# Altium footprint library gecko3-library.PcbLib: 40 footprints (part 2 of 3)
Each footprint in its own frame and in the unit in brackets; x right, y up, seen from the top. Pads: shape width x height; smd on the part's side, far side on the other; paste and mask are expansions set on the pad; w line width, h text height; cw(c..) or ccw(c..) is an arc to the next point about the centre after c.
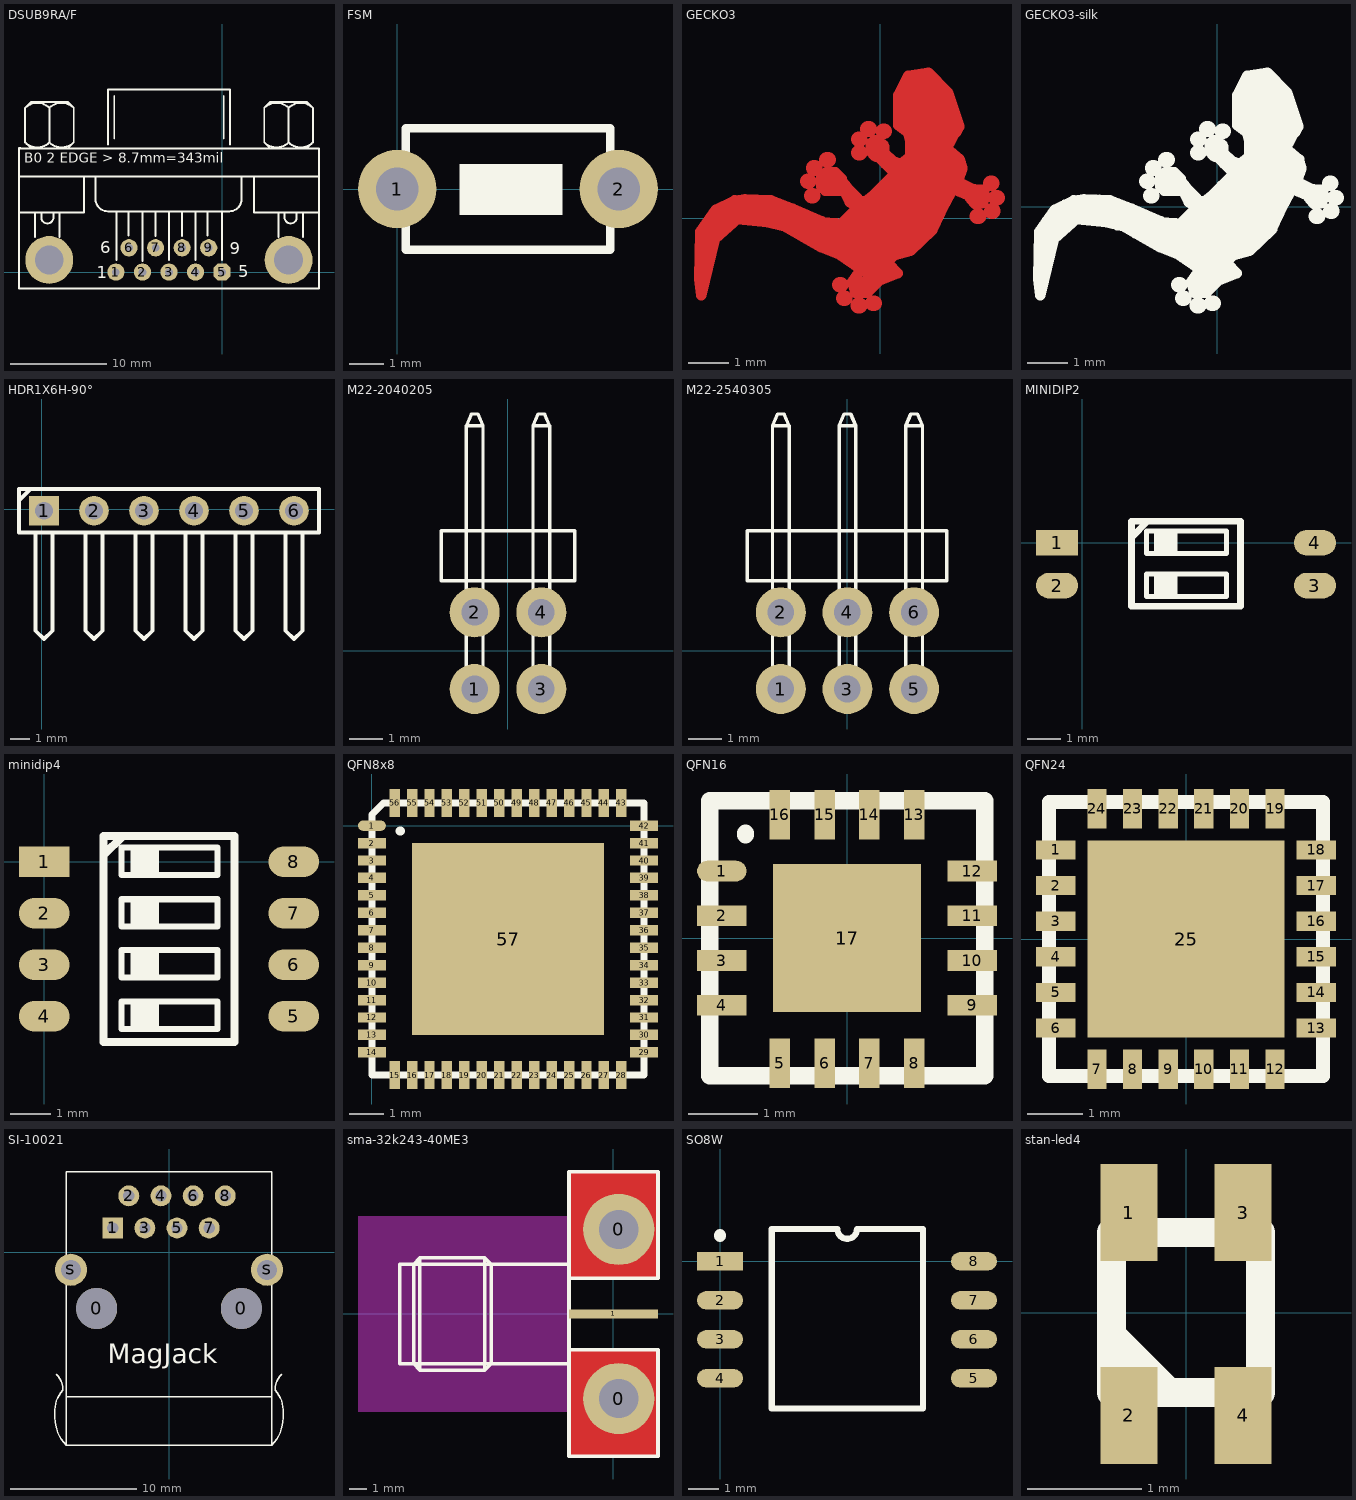
[diagram p1: the footprints below, top view; thin cyan lines are the x and y axes]

## DSUB9RA/F [mm] "DB9 female connector"
height 14
pads (11):
  round 1.8 hole 0.8: 1(-11.091,0) 2(-8.318,0) 3(-5.546,0) 4(-2.773,0) 6(-9.715,2.54) 7(-6.943,2.54) 8(-4.17,2.54) 9(-1.397,2.54)
  oct 1.8x1.8 hole 0.8: 5(0,0)
  round 5 hole 3: ""(-18.055,1.27) ""(6.943,1.27)
Top Overlay:
  lines w0.203: -21.209,6.223 -14.436,6.223 -14.427,9.957 ; -21.209,9.982 10.118,9.982 ; -20.576,13.544 ccw(c-19.304,14.817) -18.032,13.544 ; -20.576,17.147 cw(c-19.304,15.875) -18.032,17.147 ; -19.939,12.912 -20.574,13.547 -20.574,17.145 -19.939,17.78 -16.129,17.78 -15.494,17.145 -15.494,13.547 -16.129,12.912 ; -19.516,3.683 -19.516,6.223 ; -18.881,5.588 -18.881,6.223 ; -18.881,5.715 ccw(c-18.246,5.715) -17.611,5.715 ; -18.036,13.544 ccw(c-16.764,14.817) -15.492,13.544 ; -18.036,17.147 cw(c-16.764,15.875) -15.492,17.147 ; -18.034,13.547 -18.034,17.145 ; -17.611,5.588 -17.611,6.223 ; -16.976,3.683 -16.976,6.223 ; -13.208,7.366 -13.208,9.906 ; -13.208,7.62 ccw(c-11.938,7.62) -11.938,6.35 0.762,6.35 ccw(c0.762,7.62) 2.032,7.62 ; -11.896,13.335 -11.896,19.05 0.804,19.05 0.804,13.335 ; -11.261,13.97 -11.261,18.415 ; -11.049,1.27 -11.049,6.35 ; -9.779,3.81 -9.779,6.35 ; -8.331,6.325 -8.323,1.168 ; -6.96,6.325 -6.951,3.785 ; -5.546,6.35 -5.537,1.245 ; -4.174,6.35 -4.166,3.785 ; -2.794,1.27 -2.794,6.35 ; -1.524,3.81 -1.524,4.022 -1.524,6.35 ; 0,6.325 0.008,1.245 ; 0.169,13.97 0.169,18.415 ; 2.032,7.366 2.032,9.906 ; 3.327,9.931 3.344,6.223 10.118,6.223 ; 4.4,13.544 ccw(c5.673,14.817) 6.945,13.544 ; 4.4,17.147 cw(c5.673,15.875) 6.945,17.147 ; 5.038,12.912 4.403,13.547 4.403,17.145 5.038,17.78 8.848,17.78 9.483,17.145 9.483,13.547 8.848,12.912 ; 5.884,3.683 5.884,6.223 ; 6.519,5.588 6.519,6.223 ; 6.519,5.715 ccw(c7.154,5.715) 7.789,5.715 ; 6.94,13.544 ccw(c8.213,14.817) 9.485,13.544 ; 6.94,17.147 cw(c8.213,15.875) 9.485,17.147 ; 6.943,13.547 6.943,17.145 ; 7.789,5.588 7.789,6.223 ; 8.424,3.683 8.424,6.223 ; -21.209,-1.693 -21.209,12.912 10.118,12.912 10.118,-1.693 -21.209,-1.693
  lines w0.254: -21.209,12.912 -21.099,12.912
  text "B0 2 EDGE > 8.7mm=343mil" at -20.676,11.43 h1.02
  text "9" at 0.787,1.88 h1.27
  text "5" at 1.702,-0.559 h1.27
  text "1" at -13.106,-0.66 h1.27
  text "6" at -12.7,1.981 h1.27

## FSM [mil] "Printtaster 3,5x6mm, FSM Alcoswitch"
height 196.85
pads (2):
  round 90 hole 49: 1(0,0) 2(255,0)
Top Overlay:
  rectangle: 72,-30 190,29
  lines w10: 10,-70 245,-70 245,70 10,70 10,-70

## GECKO3 [mm] "Gecko Logo"
Top Layer:
  lines w0.254: -4.293,-0.418 -4.293,-0.457 -4.275,-0.9 ; -3.773,0.102 -2.464,0.102 ; -2.134,-0.025 -2.261,0.102 -2.464,0.102 ; -2.083,-0.025 -1.829,-0.025 -1.422,-0.432 ; -1.778,-0.102 -1.778,-0.025 ; -1.524,-0.203 -1.905,-0.203 -2.337,-0.203 ; -1.443,0.895 -0.935,0.895 -0.858,0.818 -0.741,0.667 -0.752,0.647 -1.036,0.666 -1.341,0.666 -1.443,0.768 -1.443,0.996 -1.316,1.123 -1.098,1.123 -0.937,0.962 ; -1.422,-0.686 -1.422,-0.076 ; -1.422,-0.381 -1.473,-0.432 -1.93,-0.432 ; -1.42,-0.101 -0.666,-0.151 ; -1.295,-0.584 -1.295,-0.15 ; -1.17,-0.127 -1.17,-0.635 -1.041,-0.838 -0.666,-0.151 ; -0.995,-0.685 -0.995,-0.177 ; -0.85,0.625 -0.743,0.392 -0.633,0.309 ; -0.838,-0.66 -0.888,-0.076 -0.393,0.419 ; -0.735,0.665 -0.448,0.377 ; -0.6,0.45 -0.588,0.447 ; -0.584,-0.66 -0.356,-0.889 0,-0.889 0.025,-0.864 0.025,-0.838 0.152,-0.711 0.61,-0.711 1.245,-0.001 1.245,0.255 1.778,0.713 ; -0.584,0 -0.584,-0.203 -0.152,0.229 0.178,0.229 0.229,0.178 0.276,0.225 0.479,0.225 0.94,0.686 ; -0.562,0.495 -0.526,0.284 ; -0.508,0.102 -0.279,0.102 -0.305,0.127 ; -0.441,0.291 0.333,1.065 ; -0.381,-1.6 -0.381,-1.549 -0.152,-1.321 ; -0.381,-1.118 0.127,-1.118 -0.076,-1.321 -0.152,-1.321 ; -0.347,0.426 -0.305,0.254 ; -0.3,0.457 0.406,0.457 ; -0.233,0.513 -0.152,0.457 0.025,0.457 0.508,0.94 0.508,1.143 ; -0.215,0.432 -0.666,-0.151 ; -0.175,1.55 -0.149,1.526 ; -0.102,1.499 -0.229,1.626 -0.229,1.829 -0.152,1.905 -0.102,1.905 -0.07,1.841 -0.041,1.857 -0.02,1.815 -0.075,1.65 ; -0.03,1.835 0.06,1.805 ; -0.016,1.461 0.109,1.346 0.097,1.347 0.179,1.271 ; 0.003,1.768 0.069,1.714 0.1,1.651 ; 0.067,1.811 0.104,1.724 0.075,1.65 ; 0.1,1.6 0.303,1.397 0.506,1.322 0.785,1.551 0.735,1.854 0.685,2.09 0.432,2.268 0.432,2.692 0.432,2.997 0.686,3.48 1.168,3.556 1.651,3.073 1.93,2.235 1.861,2.095 1.815,2.08 1.706,1.861 1.696,1.841 1.626,1.701 1.93,1.448 2.007,1.219 1.899,0.896 1.904,0.89 2.261,0.711 2.361,0.611 ; 0.178,0.457 0.178,0.432 0.813,0.432 ; 0.2,1.25 0.325,1.125 0.323,1.125 0.406,1.041 0.508,1.143 ; 0.25,1.25 0.222,1.311 0.254,1.397 ; 0.254,1.27 0.33,1.346 0.406,1.27 0.461,1.325 1.075,1.325 1.075,2.506 1.067,2.515 ; 0.33,-0.432 -0.279,-0.432 -0.076,-0.229 0.825,-0.229 ; 0.508,1.168 0.508,1.143 ; 0.635,-0.229 0.432,-0.432 0.432,-0.457 0.178,-0.711 0.178,-1.321 -0.025,-1.524 ; 0.686,0.432 0.94,0.686 ; 0.737,0.787 0.737,2.032 0.635,2.134 0.635,3.073 0.889,3.327 1.067,3.327 ; 0.889,3.023 0.991,3.023 ; 0.991,0.635 1.321,0.635 ; 0.996,3.129 0.838,2.972 0.838,2.261 0.94,2.159 0.94,0.686 ; 1.067,3.099 1.067,3.327 ; 1.125,0.675 1.125,1.856 ; 1.194,0.508 1.067,0.508 0.686,0.127 0.686,0 ; 1.219,2.515 1.067,2.515 ; 1.524,2.489 1.524,0.737 1.016,0.229 1.016,0 0.356,-0.66 -0.254,-0.66 -0.381,-0.533 -0.381,-0.33 -0.051,0 0.686,0 ; 1.702,2.235 1.626,2.311 1.626,2.769 1.067,3.327 ; 1.702,2.475 1.702,2.032 1.524,1.854 1.524,1.626 1.524,1.499 1.778,1.245 ; 2.261,0.508 1.778,0.711 1.575,0.356 1.273,-0.295 0.737,-0.801 0.33,-0.914 0.203,-1.041 0.203,-1.118 0.432,-1.346 -0.025,-1.524 ; 2.275,0.522 2.294,0.542 2.304,0.542 2.314,0.532 2.323,0.542 2.333,0.542 2.333,0.581 2.353,0.6 ; 2.337,0.584 2.337,0.635 ; -2.464,0.102 -2.667,0.305 -3.531,0.305 -3.327,0.102 -2.667,0.102 -2.54,-0.025 -1.778,-0.025 ; -2.337,-0.203 -2.743,-0.102 -3.48,-0.025 -4.039,-0.508 -4.369,-1.88 -4.42,-1.473 -4.394,-0.33 -4.013,0.203 -3.556,0.432 -3.302,0.457 -2.667,0.432 -2.134,0.229 -1.422,-0.076 ; -2.337,-0.203 -1.93,-0.432 ; -1.93,-0.432 -1.448,-0.711 -0.991,-0.889 -0.483,-1.245 -0.152,-1.092 -0.533,-1.346 -0.686,-1.549 -0.61,-1.829 ; -1.778,-0.025 -1.422,-0.076 ; -0.61,-1.829 -0.61,-1.778 -0.152,-1.321 ; -0.61,-1.829 -0.33,-1.829 -0.025,-1.524 ; 0.686,0 1.321,0.635 ; 1.067,2.515 0.838,2.743 1.247,2.743 1.321,2.669 1.321,0.635
  lines w0.3: -0.838,-0.66 -0.381,-1.118 ; -0.584,-0.66 -0.584,-0.1 ; 0.406,0.457 0.737,0.787 ; 0.991,3.023 1.524,2.489 ; 1.778,0.713 1.778,1.245
  lines w0.34: 2.15,0.675 2.5,0.65 ; 2.217,0.526 2.325,0.4 ; 2.336,0.375 2.4,0.375 ; 2.475,0.4 2.5,0.5 2.5,0.625 ; 2.475,0.45 2.4,0.375 ; 2.4,0.375 2.4,0.375
  lines w0.381: -1.775,0.9 -1.75,0.9 ; -1.675,0.55 -1.65,0.55 ; -1.625,1.225 -1.6,1.225 ; -1.3,1.425 -1.275,1.425 ; -0.991,-1.626 -0.966,-1.626 ; -0.889,-1.956 -0.864,-1.956 ; -0.533,-2.134 -0.508,-2.134 ; -0.525,1.6 -0.5,1.6 ; -0.525,1.925 -0.5,1.925 ; -0.3,2.175 -0.275,2.175 ; -0.177,-2.082 -0.152,-2.082 ; 0.075,2.125 0.1,2.125 ; 2.375,0.05 2.4,0.05 ; 2.7,0.85 2.725,0.85 ; 2.725,0.175 2.75,0.175 ; 2.825,0.5 2.85,0.5
  lines w0.4: -4.293,-0.418 -3.773,0.102
Top Solder:
  lines w0.1: -4.475,-0.825 -4.225,-0.975 ; -4.425,-1.8 -4.325,-1.775 ; -4.275,-0.025 -4.05,-0.225 -3.9,-0.225 ; -3.797,0.4 -3.75,0.05 -3.6,-0.1 ; -2.925,0.525 -2.85,0.25 -2.675,0.125 ; -2.125,-0.1 -2.25,0.05 -2.025,0.225 ; -2.075,-0.45 -1.65,-0.3 -1.725,0 ; -0.95,-0.375 -0.848,-0.749 -0.945,-1.02 ; -0.6,0.575 -0.6,0.625 ; -0.3,-1.725 -0.35,-1.45 -0.475,-1.45 -0.45,-1.225 -0.3,-0.95 ; -0.025,1.925 0.009,1.734 ; 0.05,1.3 0.6,1.175 0.475,0.725 ; 0.65,1.825 0.8,1.4 1.375,1.35 ; 0.775,3.425 0.775,3.45 ; 1.1,3.475 1.1,3.5 ; 1.6,0.6 2.2,0.6 2.225,0.35
  lines w0.2: -4.45,-1.35 -4.275,-1.225 ; -2.498,-0.201 -2.4,-0.025 -2.475,0.15 ; -1.45,-0.525 -1.25,-0.225 ; -1.25,0.65 -1.15,0.775 ; 0.825,0.9 0.725,0.35 1.326,-0.275 ; 1.475,1.1 1.975,1.45
  lines w0.25: -0.15,1.525 -0.15,1.55
  lines w0.3: -4.375,-0.35 -4.35,-0.35 ; -3.45,0.275 -3.4,0.175 ; -0.375,-0.625 -0.35,0.025 -0.225,0.2 ; -0.075,-1.125 0.125,-1.425 ; 0.075,0.775 0.3,0.4 0.2,-0.25 0.525,-0.575 ; 1.4,0.375 1.425,0.375
  lines w0.34: 0.775,2.55 0.8,2.55 ; 1.45,2.725 1.475,2.725

## GECKO3-silk [mm] "GECKO3 logo to be placed on silkscreen"
Top Overlay:
  drawing of 296 lines, arcs and shapes, not listed

## HDR1X6H-90° [mm]
pads (6):
  rect 1.5x1.5 hole 0.9: 1(0.105,-0.08)
  round 1.5 hole 0.9: 2(2.645,-0.08) 3(5.185,-0.08) 4(7.725,-0.08) 5(10.265,-0.08) 6(12.805,-0.08)
Top Overlay:
  lines w0.2: -1.159,0.434 -0.6,1 ; -0.318,-1.2 -0.318,-6.182 0.105,-6.605 0.528,-6.182 0.528,-1.2 ; 2.222,-1.2 2.222,-6.182 2.645,-6.605 3.068,-6.182 3.068,-1.2 ; 4.762,-1.2 4.762,-6.182 5.185,-6.605 5.608,-6.182 5.608,-1.2 ; 7.302,-1.2 7.302,-6.182 7.725,-6.605 8.148,-6.182 8.148,-1.2 ; 9.842,-1.2 9.842,-6.182 10.265,-6.605 10.688,-6.182 10.688,-1.2 ; 12.382,-1.2 12.382,-6.182 12.805,-6.605 13.228,-6.182 13.228,-1.2 ; -1.165,-1.2 14.075,-1.2 14.075,1.025 -1.165,1.025 -1.165,-1.2

## M22-2040205 [mm] "Harwin 2mm horizontal connector 2x2 pin"
height 4
pads (4):
  round 1.5 hole 0.8: 1(-1,-1.15) 2(-1,1.15) 3(1,-1.15) 4(1,1.15)
Top Overlay:
  lines w0.1: -1.25,-0.875 -0.75,-0.875 ; -1.25,0.875 -0.775,0.875 ; -1.25,1.375 -0.75,1.375 ; 0.75,-0.875 1.25,-0.875 ; 0.75,0.875 1.225,0.875 ; 0.75,1.375 1.25,1.375 ; -1.25,6.75 -1.1,7.1 -0.9,7.1 -0.75,6.75 ; -1.25,6.75 -1.25,-1.375 -0.75,-1.375 -0.75,6.75 ; -1.25,6.75 -0.75,6.75 ; 0.75,6.75 0.9,7.1 1.1,7.1 1.25,6.75 ; 0.75,6.75 0.75,-1.375 1.25,-1.375 1.25,6.75 ; 0.75,6.75 1.25,6.75 ; -2,2.1 -2,3.6 2,3.6 2,2.1 -2,2.1

## M22-2540305 [mm] "Harwin 2mm horizontal connector 2x3 pin"
height 4
pads (6):
  round 1.5 hole 0.8: 1(-2,-1.15) 2(-2,1.15) 3(0,-1.15) 4(0,1.15) 5(2,-1.15) 6(2,1.15)
Top Overlay:
  lines w0.1: -2.25,-0.875 -1.75,-0.875 ; -2.25,0.875 -1.775,0.875 ; -2.25,1.375 -1.75,1.375 ; -0.25,-0.875 0.25,-0.875 ; -0.25,0.875 0.225,0.875 ; -0.25,1.375 0.25,1.375 ; 1.75,-0.875 2.25,-0.875 ; 1.75,0.875 2.225,0.875 ; 1.75,1.375 2.25,1.375 ; -2.25,6.75 -2.1,7.1 -1.9,7.1 -1.75,6.75 ; -2.25,6.75 -2.25,-1.375 -1.75,-1.375 -1.75,6.75 ; -2.25,6.75 -1.75,6.75 ; -0.25,6.75 -0.1,7.1 0.1,7.1 0.25,6.75 ; -0.25,6.75 -0.25,-1.375 0.25,-1.375 0.25,6.75 ; -0.25,6.75 0.25,6.75 ; 1.75,6.75 1.9,7.1 2.1,7.1 2.25,6.75 ; 1.75,6.75 1.75,-1.375 2.25,-1.375 2.25,6.75 ; 1.75,6.75 2.25,6.75 ; -3,2.1 -3,3.6 2.975,3.6 2.975,2.1 -3,2.1

## MINIDIP2 [mm] "2 Way Dip Switch, 1,27 mm Spacing"
height 1.6
pads (4):
  rect 1.25x0.76 smd: 1(-0.75,0)
  oval 1.25x0.76 smd: 2(-0.75,-1.27) 3(6.9,-1.27) 4(6.9,0)
Top Overlay:
  rectangle: 2.125,-1.6 2.825,-0.925
  rectangle: 2.125,-0.325 2.825,0.35
  lines w0.15: 1.9,-1.6 4.275,-1.6 4.275,-0.925 1.9,-0.925 1.9,-1.6 ; 1.9,-0.325 4.275,-0.325 4.275,0.35 1.9,0.35 1.9,-0.325
  lines w0.2: 1.475,0.175 1.925,0.625 ; 4.674,0.635 1.46,0.635 1.46,-1.88 4.69,-1.88 4.69,0.635

## minidip4 [mm]
height 1.6
pads (8):
  rect 1.25x0.76 smd: 1(0,0)
  oval 1.25x0.76 smd: 2(0,-1.27) 3(0,-2.54) 4(0,-3.81) 5(6.15,-3.81) 6(6.15,-2.54) 7(6.15,-1.27) 8(6.15,0)
Top Overlay:
  rectangle: 2.125,-4.125 2.825,-3.45
  rectangle: 2.125,-2.85 2.825,-2.175
  rectangle: 2.125,-1.6 2.825,-0.925
  rectangle: 2.125,-0.325 2.825,0.35
  lines w0.15: 1.9,-4.125 4.275,-4.125 4.275,-3.45 1.9,-3.45 1.9,-4.125 ; 1.9,-2.85 4.275,-2.85 4.275,-2.175 1.9,-2.175 1.9,-2.85 ; 1.9,-1.6 4.275,-1.6 4.275,-0.925 1.9,-0.925 1.9,-1.6 ; 1.9,-0.325 4.275,-0.325 4.275,0.35 1.9,0.35 1.9,-0.325
  lines w0.2: 1.46,0.635 1.46,-4.445 4.69,-4.445 4.69,0.635 ; 1.473,0.635 4.674,0.635 ; 1.475,0.175 1.925,0.625

## QFN8x8 [mm]
pads (57):
  oval 0.8x0.3 smd paste-0.05 mask+0.05: 1(0,0)
  rect 0.8x0.3 smd paste-0.05 mask+0.05: 2(0,-0.5) 3(0,-1) 4(0,-1.5) 5(0,-2) 6(0,-2.5) 7(0,-3) 8(0,-3.5) 9(0,-4) 10(0,-4.5) 11(0,-5) 12(0,-5.5) 13(0,-6) 14(0,-6.5) 29(7.8,-6.5) 30(7.8,-6) 31(7.8,-5.5) 32(7.8,-5) 33(7.8,-4.5) 34(7.8,-4) 35(7.8,-3.5) 36(7.8,-3) 37(7.8,-2.5) 38(7.8,-2) 39(7.8,-1.5) 40(7.8,-1) 41(7.8,-0.5) 42(7.8,0)
  rect 0.3x0.8 smd paste-0.05 mask+0.05: 15(0.65,-7.15) 16(1.15,-7.15) 17(1.65,-7.15) 18(2.15,-7.15) 19(2.65,-7.15) 20(3.15,-7.15) 21(3.65,-7.15) 22(4.15,-7.15) 23(4.65,-7.15) 24(5.15,-7.15) 25(5.65,-7.15) 26(6.15,-7.15) 27(6.65,-7.15) 28(7.15,-7.15) 43(7.15,0.65) 44(6.65,0.65) 45(6.15,0.65) 46(5.65,0.65) 47(5.15,0.65) 48(4.65,0.65) 49(4.15,0.65) 50(3.65,0.65) 51(3.15,0.65) 52(2.65,0.65) 53(2.15,0.65) 54(1.65,0.65) 55(1.15,0.65) 56(0.65,0.65)
  rect 5.5x5.5 smd paste-0.6 mask+0.05: 57(3.9,-3.25)
Top Overlay:
  lines w0.2: 0,-7.15 7.8,-7.15 7.8,0.65 0.325,0.65 0,0.325 0,-7.15
  lines w0.254: 0.8,-0.15 0.825,-0.15

## QFN16 [mm]
pads (17):
  oval 0.72x0.3 smd: 1(-1.82,0.975)
  rect 0.72x0.3 smd: 2(-1.82,0.325) 3(-1.82,-0.325) 4(-1.82,-0.975) 9(1.82,-0.975) 10(1.82,-0.325) 11(1.82,0.325) 12(1.82,0.975)
  rect 0.3x0.72 smd: 5(-0.975,-1.82) 6(-0.325,-1.82) 7(0.325,-1.82) 8(0.975,-1.82) 13(0.975,1.795) 14(0.325,1.795) 15(-0.325,1.795) 16(-0.975,1.795)
  rect 2.15x2.15 smd paste-0.3: 17(0,0)
Top Overlay:
  lines w0.254: -1.475,1.5 -1.475,1.525 ; -1.995,-2 2.005,-2 2.005,2 -1.995,2 -1.995,-2

## QFN24 [mm]
pads (25):
  rect 0.72x0.35 smd: 1(-2.375,1.625) 2(-2.375,0.975) 3(-2.375,0.325) 4(-2.375,-0.325) 5(-2.375,-0.975) 6(-2.375,-1.625) 13(2.375,-1.625) 14(2.375,-0.975) 15(2.375,-0.325) 16(2.375,0.325) 17(2.375,0.975) 18(2.375,1.625)
  rect 0.35x0.72 smd: 7(-1.625,-2.375) 8(-0.975,-2.375) 9(-0.325,-2.375) 10(0.325,-2.375) 11(0.975,-2.375) 12(1.625,-2.375) 19(1.625,2.375) 20(0.975,2.375) 21(0.325,2.375) 22(-0.325,2.375) 23(-0.975,2.375) 24(-1.625,2.375)
  rect 3.6x3.6 smd: 25(0,0)
Top Overlay:
  lines w0.254: -2.5,-2.5 -2.5,2.5 2.5,2.5 2.5,-2.5 -2.5,-2.5

## SI-10021 [mil] "MagJack from Bel Stewart, single port RJ45 with magnetics, without LED's"
height 598.82
pads (12):
  round 128 hole 128: 0(-225,-175) 0(225,-175)
  rect 65x65 hole 35: 1(-175,75)
  round 65 hole 35: 2(-125,175) 3(-75,75) 4(-25,175) 5(25,75) 6(75,175) 7(125,75) 8(175,175)
  round 100 hole 62: s(-305,-55) s(305,-55)
Top Overlay:
  lines w3.94: -350,-380 cw(c-398.28,-428.28) -330,-428.28 -330,-430 ccw(c-269.64,-490.36) -355,-490.36 -355,-515.5 ccw(c-235.5,-515.5) -320,-600 ; -320,-450 320,-450 ; 350,-380 ccw(c398.28,-428.28) 330,-428.28 330,-430 cw(c269.64,-490.36) 355,-490.36 355,-515.5 cw(c235.5,-515.5) 320,-600 ; -320,-600 -320,250 320,250 320,-170 320,-600 ; -320,-600 320,-600
  text "MagJack" at -190,-345 h60

## sma-32k243-40ME3 [mm] "Rosenberger SMD SMA HF Connector"
height 4
pads (3):
  round 4 hole 2.2: 0(0.3,-4.75) 0(0.3,4.75)
  rect 5x0.5 smd: 1(0,0)
Top Layer:
  rectangle: -2.5,-8 2.5,-2
  rectangle: -2.5,2 2.5,8
Top Overlay:
  lines w0.2: -2.525,2.8 -12,2.8 -12,-2.8 -2.5,-2.8 ; -2.5,-2.025 -2.5,2 ; -10.875,-3.15 -11.225,-2.8 -11.225,2.8 -10.875,3.15 ; -10.875,-3.15 -7.225,-3.15 ; -10.875,-3.15 -10.875,3.15 ; -10.875,3.15 -7.225,3.15 ; -7.225,-3.15 -6.875,-2.8 -6.875,2.8 -7.225,3.15 ; -7.225,-3.15 -7.225,3.15 ; -2.5,2 -2.5,8 2.5,8 2.5,2 -2.5,2 ; -2.5,-8 -2.5,-2 2.5,-2 2.5,-8 -2.5,-8
Bottom Overlay:
  lines w0.2: -7.25,3.15 -7.225,3.15 ; -2.5,-2.8 -12,-2.8 -12,2.8 -2.5,2.8 ; -1.9,8 -1.9,0 -1.9,-8 2.5,-8 2.5,8 ; -10.875,-3.15 -10.875,3.15 ; -10.875,-3.15 -7.225,-3.15 ; -10.875,-3.15 -10.875,-3.15 ; -10.875,-3.15 -11.225,-2.8 -11.225,2.8 -10.875,3.15 ; -10.875,3.15 -7.225,3.15 ; -10.875,3.15 -10.875,3.15 ; -7.225,-3.15 -7.225,3.15 ; -7.225,-3.15 -6.875,-2.8 -6.875,2.8 -7.225,3.15
Keep-Out Layer:
  rectangle: -14.35,-5.5 -2.5,5.5

## SO8W [mm]
pads (8):
  rect 1.5x0.6 smd: 1(0,0)
  oval 1.5x0.6 smd: 2(0,-1.27) 3(0,-2.54) 4(0,-3.81) 5(8.275,-3.81) 6(8.275,-2.54) 7(8.275,-1.27) 8(8.275,0)
Top Overlay:
  lines w0.2: 4.46,1.05 cw(c4.143,1.05) 3.825,1.05 1.685,1.05 1.685,-4.8 6.615,-4.8 6.615,1.05 4.475,1.05
  lines w0.4: 0,0.825 0,0.85

## stan-led4 [mm] "Stanley Duo LED, SMD"
height 0.7
pads (4):
  rect 0.5x0.85 smd: 1(-0.5,0.875) 2(-0.5,-0.9) 3(0.5,0.875) 4(0.5,-0.9)
Top Overlay:
  lines w0.254: -0.65,-0.2 -0.15,-0.7 ; -0.65,-0.7 -0.65,0.7 0.65,0.7 0.65,-0.7 -0.65,-0.7